# Altium schematic symbol library R05P06S.Schlib: 1 symbol
Pins are listed as number, name and electrical type; pins without a type are passive.

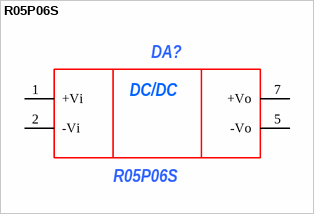
[diagram p0: symbol R05P06S]

## R05P06S
designator DA?
DC/DC преобразователь Uвх=5В, Uвых=6В 1Вт; ComponentLink1Description: *; ComponentLink1URL: *; ComponentLink2Description: *; ComponentLink2URL: *; ManufacturerPartNumber: R05P06S; Power/Voltage: *; Rem: *; TKE: *; Tolerance: *; TU/GOST: *; Value: *; Корпус: *; Примечание: *; Manufacturer: *; Author: *; Type: *
footprint TMV0505S
pins: 1 +Vi (power), 2 -Vi (power), 5 -Vo (power), 7 +Vo (power)
text: DC/DC